# EAGLE library part SPARKFUN-IC-COMMS_CH340G (library new_esplay)
A simple USB 2.0 to Serial IC.
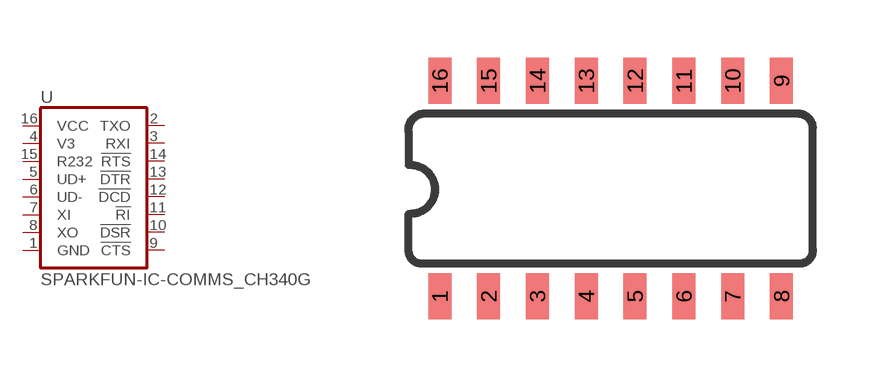
[diagram p5: symbol with the pads of SPARKFUN-IC-COMMS_SO016; footprint SPARKFUN-IC-COMMS_SO016]

Designator prefix U

## SPARKFUN-IC-COMMS_CH340GSMD (PROD_ID: IC-13498; VALUE: CH340G)  [SPARKFUN-IC-COMMS_SO016]
1  GND
2  TXO
3  RXI
4  V3
5  UD+
6  UD-
7  XI
8  XO
9  !CTS
10  !DSR
11  !RI
12  !DCD
13  !DTR
14  !RTS
15  R232
16  VCC

## Footprint SPARKFUN-IC-COMMS_SO016 (pad centres in mm)
smd 0.6 x 1.2: 1 -4.445,-2.8; 2 -3.175,-2.8; 3 -1.905,-2.8; 4 -0.635,-2.8; 5 0.635,-2.8; 6 1.905,-2.8; 7 3.175,-2.8; 8 4.445,-2.8; 9 4.445,2.8; 10 3.175,2.8; 11 1.905,2.8; 12 0.635,2.8; 13 -0.635,2.8; 14 -1.905,2.8; 15 -3.175,2.8; 16 -4.445,2.8